# Altium footprint library diode.PCBLIB: 211 footprints (part 12 of 14)
Each footprint in its own frame and in the unit in brackets; x right, y up, seen from the top. Pads: shape width x height; smd on the part's side, far side on the other; paste and mask are expansions set on the pad; w line width, h text height; cw(c..) or ccw(c..) is an arc to the next point about the centre after c.
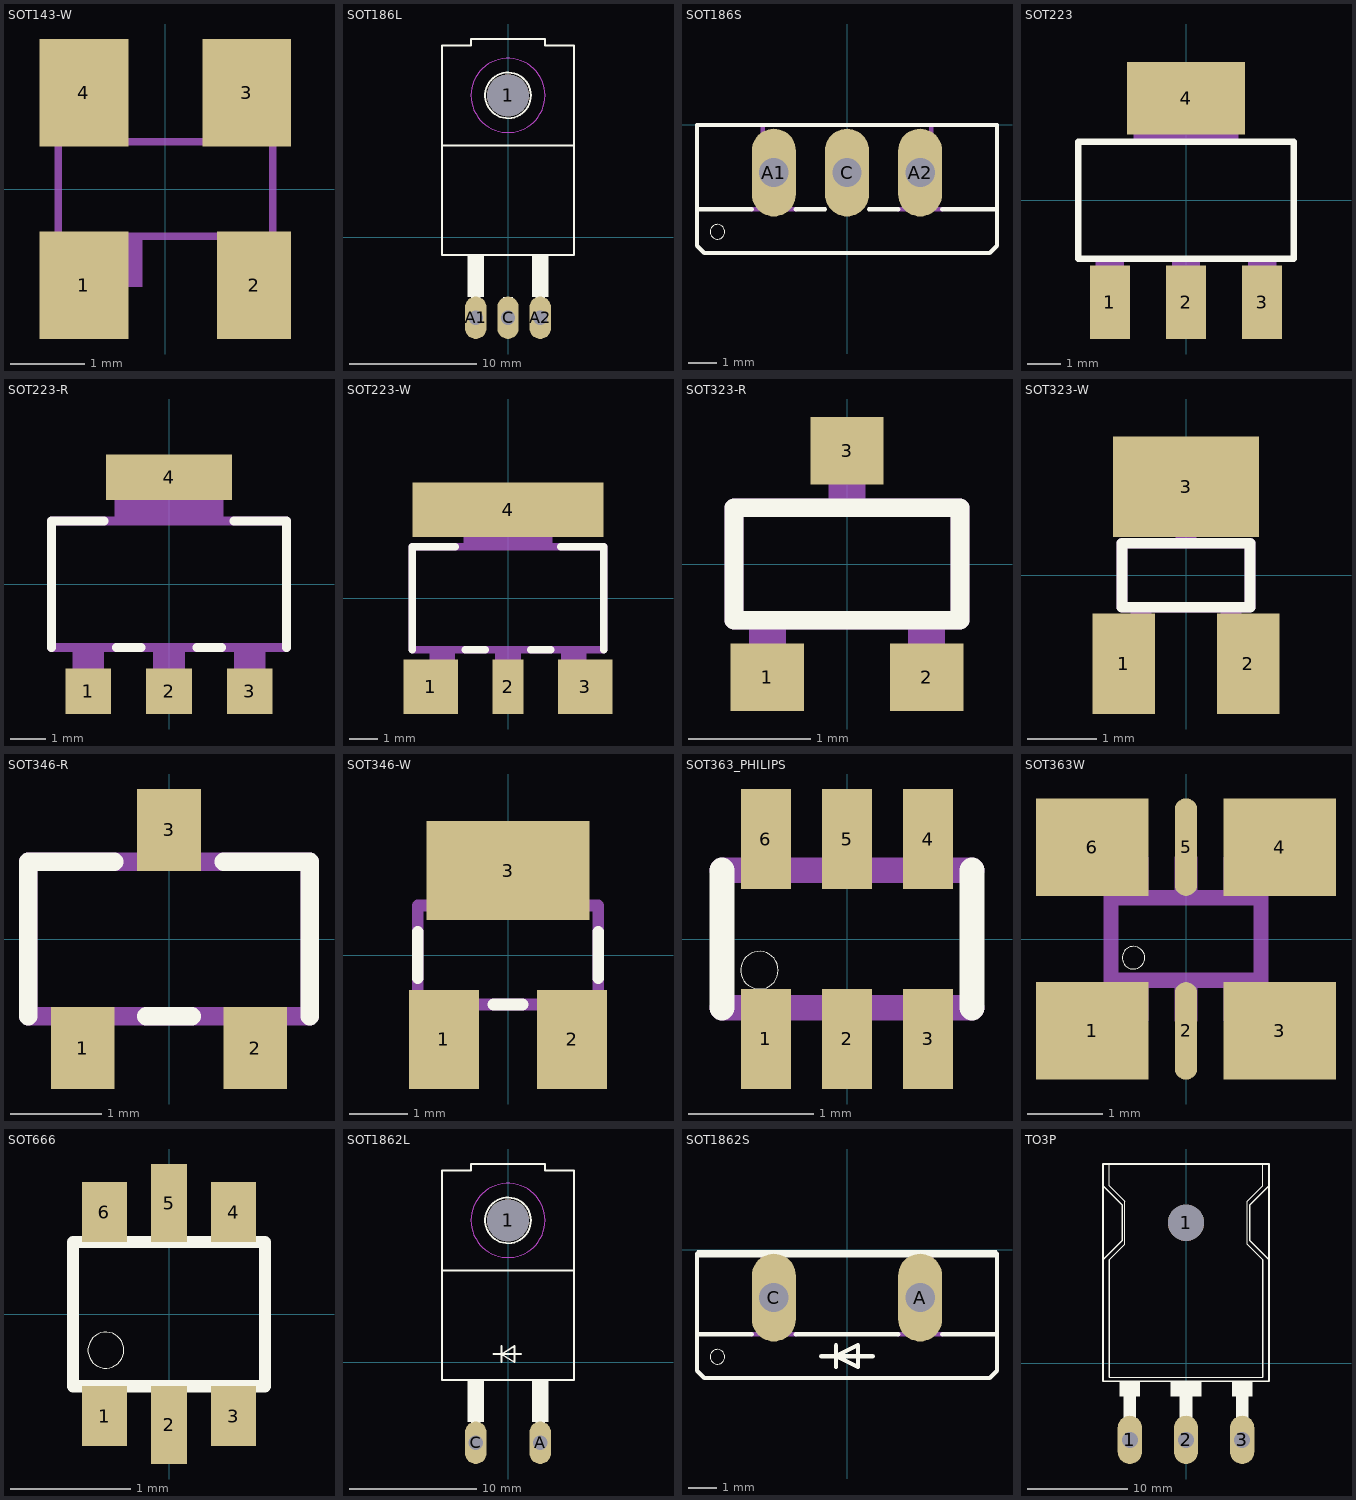
[diagram p11: the footprints below, top view; thin cyan lines are the x and y axes]

## SOT143-W [mm]
pads (4):
  rect 1.2x1.45 smd: 1(-1.1,-1.3) 3(1.1,1.3) 4(-1.1,1.3)
  rect 1x1.45 smd: 2(1.2,-1.3)
Mechanical 4:
  rectangle: -1.194,-1.321 -0.305,-0.635
  rectangle: -1.143,0.635 -0.686,1.321
  rectangle: 0.711,0.635 1.168,1.321
  rectangle: 0.737,-1.321 1.194,-0.635
  lines w0.102: -1.448,-0.635 -1.448,0.635 1.448,0.635 1.448,-0.635 -1.448,-0.635

## SOT186L [mil]
pads (4):
  round 130 hole 130: 1(0,440)
  oval 66x132 hole 44: A1(-100,-250) A2(100,-250) C(0,-250)
Top Overlay:
  circle w6: c0,440 r71
  rectangle: -15,-190 15,-185
  rectangle: -115,-190 -85,-185
  rectangle: 85,-190 115,-185
  rectangle: 75,-185 125,-55
  rectangle: -125,-185 -75,-55
  lines w6: -205,285 -205,595 -115,595 -115,615 115,615 115,595 205,595 205,285 ; -205,285 205,285 ; -205,285 -205,-55 205,-55 205,285
Mechanical 4:
  rectangle: -15,-255 15,-190
  rectangle: -115,-255 -85,-190
  rectangle: 85,-255 115,-190
Mechanical 11 keep-out:
  circle w0: c0,440 r115
Mechanical 12:
  circle w0: c0,440 r115

## SOT186S [mil]
pads (3):
  oval 60x120 hole 40: A1(-100,-65) A2(100,-65) C(0,-65)
Top Overlay:
  circle w0: c-177,-146 r10
  lines w6: -130,-115 -205,-115 ; -70,-115 -30,-115 ; 30,-115 70,-115 ; 130,-115 205,-115 ; -205,-115 -205,-165 -195,-175 195,-175 205,-165 205,-115 ; -205,-115 -205,0 205,0 205,-115
Mechanical 4:
  lines w6: -130,-115 -115,-115 ; -115,0 -115,-115 ; -70,-115 -115,-115 ; 70,-115 115,-115 ; 115,0 115,-115 ; 130,-115 115,-115

## SOT223 [mil]
pads (4):
  rect 47.99x87.99 smd: 1(-90.98,-122.01) 2(0,-122.01) 3(90.98,-122.01)
  rect 141.73x86.61 smd: 4(0,122.01)
Top Overlay:
  lines w8: -129.02,-70 129.02,-70 129.02,70 -129.02,70 -129.02,-70
Mechanical 4:
  rectangle: -63,71 63,144
  rectangle: -17,-144 17,-71
  rectangle: -108,-144 -74,-71
  rectangle: 74,-144 108,-71
  rectangle: -63,71 63,144
  rectangle: -17,-144 17,-71
  rectangle: -108,-144 -74,-71
  rectangle: 74,-144 108,-71

## SOT223-R [mil]
pads (4):
  rect 51.18x51.18 smd: 1(-90.55,-120.08) 2(0,-120.08) 3(90.55,-120.08)
  rect 141.73x51.18 smd: 4(0,120.08)
Top Overlay:
  lines w10: -131.89,-70.87 -131.89,70.87 -72.83,70.87 ; -59.06,-70.87 -31.5,-70.87 ; 31.5,-70.87 59.06,-70.87 ; 72.83,70.87 131.89,70.87 131.89,-70.87
Mechanical 4:
  rectangle: -108.27,-135.83 -72.83,-74.8
  rectangle: -17.72,-135.83 17.72,-74.8
  rectangle: 72.83,-135.83 108.27,-74.8
  rectangle: -61.02,74.8 61.02,135.83
  lines w10: -131.89,-70.87 -131.89,70.87 131.89,70.87 131.89,-70.87 -131.89,-70.87

## SOT223-W [mm]
pads (4):
  rect 1.9x1.9 smd: 1(-2.7,-3.1) 3(2.7,-3.1)
  rect 1.1x1.9 smd: 2(0,-3.1)
  rect 6.7x1.9 smd: 4(0,3.1)
Top Overlay:
  lines w0.254: -3.35,-1.8 -3.35,1.8 -1.85,1.8 ; -1.5,-1.8 -0.8,-1.8 ; 0.8,-1.8 1.5,-1.8 ; 1.85,1.8 3.35,1.8 3.35,-1.8
Mechanical 4:
  rectangle: -1.55,1.9 1.55,3.45
  rectangle: 1.85,-3.45 2.75,-1.9
  rectangle: -0.45,-3.45 0.45,-1.9
  rectangle: -2.75,-3.45 -1.85,-1.9
  lines w0.254: -3.35,-1.8 3.35,-1.8 3.35,1.8 -3.35,1.8 -3.35,-1.8

## SOT323-R [mm]
pads (3):
  rect 0.6x0.55 smd: 1(-0.65,-0.925) 2(0.65,-0.925) 3(0,0.925)
Top Overlay:
  lines w0.152: -0.923,-0.461 -0.923,0.461 0.923,0.461 0.923,-0.461 -0.923,-0.461
Mechanical 4:
  rectangle: -0.15,0.5 0.15,1.1
  rectangle: 0.5,-1.1 0.8,-0.5
  rectangle: -0.8,-1.1 -0.5,-0.5
  lines w0.152: -0.923,-0.461 -0.923,0.461 0.923,0.461 0.923,-0.461 -0.923,-0.461

## SOT323-W [mil]
pads (3):
  rect 35.43x57.09 smd: 1(-35.43,-50.2) 2(35.43,-50.2)
  rect 82.68x57.09 smd: 3(0,50.2)
Top Overlay:
  lines w6: -36.32,-18.13 36.32,-18.13 36.32,18.13 -36.32,18.13 -36.32,-18.13
Mechanical 4:
  rectangle: -31.5,-43.31 -19.69,-19.69
  rectangle: 19.69,-43.31 31.5,-19.69
  rectangle: -5.91,19.69 5.91,43.31
  lines w6: -36.32,-18.13 36.32,-18.13 36.32,18.13 -36.32,18.13 -36.32,-18.13

## SOT346-R [mil]
pads (3):
  rect 27.56x35.43 smd: 1(-37.4,-47.24) 2(37.4,-47.24) 3(0,47.24)
Top Overlay:
  lines w8: -61.02,-33.46 -61.02,33.46 -23.62,33.46 ; -9.84,-33.46 9.84,-33.46 ; 23.62,33.46 61.02,33.46 61.02,-33.46
Mechanical 4:
  rectangle: -45.28,-59.06 -29.53,-37.4
  rectangle: 29.53,-59.06 45.28,-37.4
  rectangle: -7.87,37.4 7.87,59.06
  lines w8: -61.02,-33.46 61.02,-33.46 61.02,33.46 -61.02,33.46 -61.02,-33.46

## SOT346-W [mil]
pads (3):
  rect 47.24x66.93 smd: 1(-43.31,-57.09) 2(43.31,-57.09)
  rect 110.24x66.93 smd: 3(0,57.09)
Top Overlay:
  lines w8: -61.02,-15.75 -61.02,15.75 ; -9.84,-33.46 9.84,-33.46 ; 61.02,-15.75 61.02,15.75
Mechanical 4:
  rectangle: -45.28,-59.06 -29.53,-37.4
  rectangle: 29.53,-59.06 45.28,-37.4
  rectangle: -7.87,37.4 7.87,59.06
  lines w8: -61.02,-33.46 61.02,-33.46 61.02,33.46 -61.02,33.46 -61.02,-33.46

## SOT363_PHILIPS [mil]
pads (6):
  rect 15.75x31.5 smd: 1(-25.59,-31.5) 2(0,-31.5) 3(25.59,-31.5) 4(25.59,31.5) 5(0,31.5) 6(-25.59,31.5)
Top Overlay:
  circle w0: c-27.56,-9.84 r5.91
  lines w8: -39.37,-21.65 -39.37,21.65 ; 39.37,-21.65 39.37,21.65
Mechanical 4:
  rectangle: -31.5,-43.31 -19.69,-23.62
  rectangle: -5.91,-43.31 5.91,-23.62
  rectangle: 19.69,-43.31 31.5,-23.62
  rectangle: 19.69,23.62 31.5,43.31
  rectangle: -5.91,23.62 5.91,43.31
  rectangle: -31.5,23.62 -19.69,43.31
  lines w8: -39.37,-21.65 39.37,-21.65 ; -39.37,21.65 39.37,21.65

## SOT363W [mil]
pads (6):
  rect 59.06x51.18 smd: 1(-49.21,-48.23) 3(49.21,-48.23) 4(49.21,48.23) 6(-49.21,48.23)
  rrect100% 11.81x51.18 smd: 2(0,-48.23) 5(0,48.23)
Top Overlay:
  circle w0: c-27.56,-9.84 r5.91
Mechanical 4:
  rectangle: -31.5,-43.31 -19.69,-23.62
  rectangle: -5.91,-43.31 5.91,-23.62
  rectangle: 19.69,-43.31 31.5,-23.62
  rectangle: 19.69,23.62 31.5,43.31
  rectangle: -5.91,23.62 5.91,43.31
  rectangle: -31.5,23.62 -19.69,43.31
  lines w8: -39.37,-21.65 39.37,-21.65 39.37,21.65 -39.37,21.65 -39.37,-21.65

## SOT666 [mm]
pads (6):
  rect 0.375x0.5 smd: 1(-0.537,-0.85) 3(0.538,-0.85) 4(0.538,0.849) 6(-0.538,0.85)
  rect 0.3x0.65 smd: 2(0,-0.923) 5(0,0.925)
Top Overlay:
  circle w0: c-0.525,-0.3 r0.15
  lines w0.102: -0.8,-0.6 0.8,-0.6 0.8,0.6 -0.8,0.6 -0.8,-0.6
Mechanical 4:
  region: -0.375,-0.85 -0.375,-0.625 -0.625,-0.625 -0.625,-0.85
  region: 0.125,-0.85 0.125,-0.625 -0.125,-0.625 -0.125,-0.85
  region: 0.625,-0.85 0.625,-0.625 0.375,-0.625 0.375,-0.85
  region: 0.375,0.85 0.375,0.625 0.625,0.625 0.625,0.85
  region: -0.125,0.85 -0.125,0.625 0.125,0.625 0.125,0.85
  region: -0.625,0.85 -0.625,0.625 -0.375,0.625 -0.375,0.85

## SOT1862L [mil]
pads (3):
  round 130 hole 130: 1(0,440)
  oval 66x132 hole 44: A(100,-250) C(-100,-250)
Top Overlay:
  circle w6: c0,440 r71
  rectangle: -115,-190 -85,-185
  rectangle: 85,-190 115,-185
  rectangle: 75,-185 125,-55
  rectangle: -125,-185 -75,-55
  lines w6: -45,25 -20,25 ; -20,0 -20,25 ; -20,50 -20,25 ; 40,25 -20,25 ; -205,285 -205,595 -115,595 -115,615 115,615 115,595 205,595 205,285 ; -205,285 205,285 ; -205,285 -205,-55 205,-55 205,285 ; -20,25 20,50 20,0 -20,25
Mechanical 4:
  rectangle: -115,-255 -85,-190
  rectangle: 85,-255 115,-190
Mechanical 11 keep-out:
  circle w0: c0,440 r115
Mechanical 12:
  circle w0: c0,440 r115

## SOT1862S [mil]
pads (2):
  oval 60x120 hole 40: A(100,-65) C(-100,-65)
Top Overlay:
  circle w0: c-177,-146 r10
  rectangle: -205,-10 205,0
  lines w6: -205,-5 -205,-115 ; -130,-115 -205,-115 ; -70,-115 70,-115 ; -35,-145 -15,-145 ; -15,-160 -15,-145 ; -15,-130 -15,-145 ; 35,-145 -15,-145 ; 130,-115 205,-115 ; 205,-5 205,-115 ; -205,-115 -205,-165 -195,-175 195,-175 205,-165 205,-115 ; -15,-145 15,-160 15,-130 -15,-145
Mechanical 4:
  lines w6: -130,-115 -115,-115 ; -115,-5 -115,-115 ; -70,-115 -115,-115 ; 70,-115 115,-115 ; 115,-5 115,-115 ; 130,-115 115,-115

## TO3P [mil]
pads (4):
  oval 94.5x189 hole 63: 1(-220,-300) 2(0,-300) 3(220,-300)
  round 142 hole 142: 1(0,550)
Top Overlay:
  circle w6: c0,550 r65
  rectangle: -60,-130 60,-70
  rectangle: 180,-130 260,-70
  rectangle: -25,-220 25,-130
  rectangle: 195,-220 245,-130
  rectangle: -260,-130 -180,-70
  rectangle: -245,-216.54 -195,-130
  lines w2: -300,-55 300,-55 ; -300,405 -240,465 -240,635 -300,695 -300,780 ; 300,405 240,465 240,635 300,695 300,780
  lines w6: -300,-55 -300,405 ; 300,-55 300,405 ; -325,405 -325,-70 325,-70 325,405 ; -325,405 -250,480 -250,620 -325,695 ; -325,405 -325,695 ; -325,695 -325,780 -300,780 300,780 325,780 325,695 ; 325,405 325,695 ; 325,405 250,480 250,620 325,695
Mechanical 4:
  rectangle: -245,-295 -195,-220
  rectangle: -25,-295 25,-220
  rectangle: 195,-295 245,-220